# EAGLE library part MCP33141 (library Bits_library_eagle)
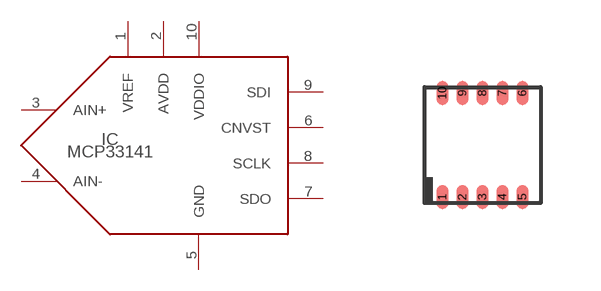
[diagram p59: symbol with the pads of TDFN-10; footprint TDFN-10]

Designator prefix IC

## MCP33141  [TDFN-10]
1  VREF  pwr
2  AVDD  pwr
3  AIN+
4  AIN-
5  GND  pwr
6  CNVST
7  SDO
8  SCLK
9  SDI
10  VDDIO  pwr

## Footprint TDFN-10 (pad centres in mm)
smd 0.3 x 0.6: 1 -1,-1.3; 2 -0.5,-1.3; 3 0,-1.3; 4 0.5,-1.3; 5 1,-1.3; 6 1,1.3; 7 0.5,1.3; 8 0,1.3; 9 -0.5,1.3; 10 -1,1.3